# Altium schematic symbol library TPS22917x.SchLib: 1 symbol
Pins are listed as number, name and electrical type; pins without a type are passive.

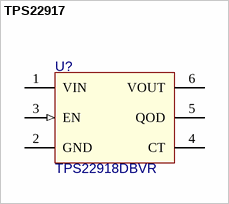
[diagram p0: symbol TPS22917]

## TPS22917
designator U?  value TPS22918DBVR  (hidden comment: TPS22917)
TPS22917x 1 V–5.5-V, 2-A, 80-mΩ Ultra-Low Leakage Load Switch
footprint SOT-23-6 (Footprint not found)
pins: 1 VIN (power) "Input power", 2 GND (power), 3 EN (in) "Active high switch control input. Do not leave floating.", 4 CT, 5 QOD "Open drain status pin. Pulled low when VIN1 is not being used.", 6 VOUT (power) "Output power"